# EAGLE library part RX110_48 (library systas0)
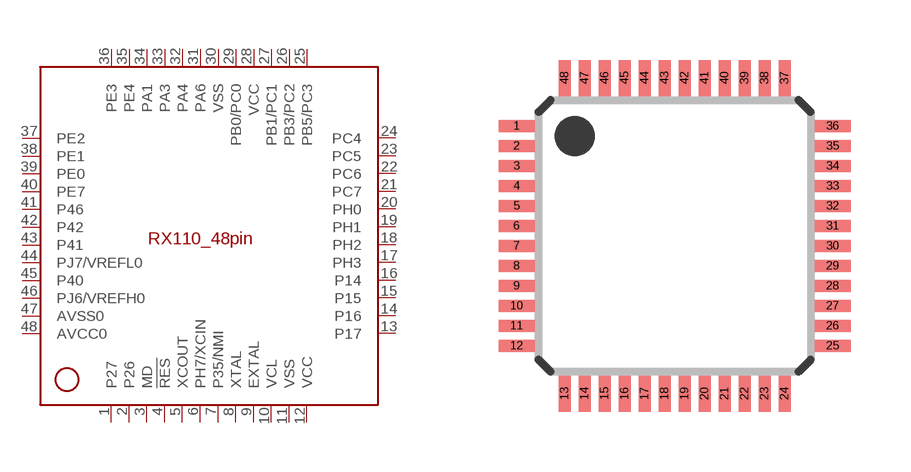
[diagram p31: symbol with the pads of LQFP48-7X7; footprint LQFP48-7X7]

Designator prefix -

## RX110_48  [LQFP48-7X7]
1  P27
2  P26
3  MD
4  !RES
5  XCOUT
6  PH7/XCIN
7  P35/NMI
8  XTAL
9  EXTAL
10  VCL
11  VSS
12  VCC
13  P17
14  P16
15  P15
16  P14
17  PH3
18  PH2
19  PH1
20  PH0
21  PC7
22  PC6
23  PC5
24  PC4
25  PB5/PC3
26  PB3/PC2
27  PB1/PC1
28  VCC
29  PB0/PC0
30  VSS
31  PA6
32  PA4
33  PA3
34  PA1
35  PE4
36  PE3
37  PE2
38  PE1
39  PE0
40  PE7
41  P46
42  P42
43  P41
44  PJ7/VREFL0
45  P40
46  PJ6/VREFH0
47  AVSS0
48  AVCC0

## Footprint LQFP48-7X7 (pad centres in mm)
smd 0.9 x 0.3: 1 -3.95,2.75; 2 -3.95,2.25; 3 -3.95,1.75; 4 -3.95,1.25; 5 -3.95,0.75; 6 -3.95,0.25; 7 -3.95,-0.25; 8 -3.95,-0.75; 9 -3.95,-1.25; 10 -3.95,-1.75; 11 -3.95,-2.25; 12 -3.95,-2.75; 25 3.95,-2.75; 26 3.95,-2.25; 27 3.95,-1.75; 28 3.95,-1.25; 29 3.95,-0.75; 30 3.95,-0.25; 31 3.95,0.25; 32 3.95,0.75; 33 3.95,1.25; 34 3.95,1.75; 35 3.95,2.25; 36 3.95,2.75
smd 0.3 x 0.9: 13 -2.75,-3.95; 14 -2.25,-3.95; 15 -1.75,-3.95; 16 -1.25,-3.95; 17 -0.75,-3.95; 18 -0.25,-3.95; 19 0.25,-3.95; 20 0.75,-3.95; 21 1.25,-3.95; 22 1.75,-3.95; 23 2.25,-3.95; 24 2.75,-3.95; 37 2.75,3.95; 38 2.25,3.95; 39 1.75,3.95; 40 1.25,3.95; 41 0.75,3.95; 42 0.25,3.95; 43 -0.25,3.95; 44 -0.75,3.95; 45 -1.25,3.95; 46 -1.75,3.95; 47 -2.25,3.95; 48 -2.75,3.95